# Altium footprint library pico-clasp-5.PcbLib: 1 footprints
Each footprint in its own frame and in the unit in brackets; x right, y up, seen from the top. Pads: shape width x height; smd on the part's side, far side on the other; paste and mask are expansions set on the pad; w line width, h text height; cw(c..) or ccw(c..) is an arc to the next point about the centre after c.
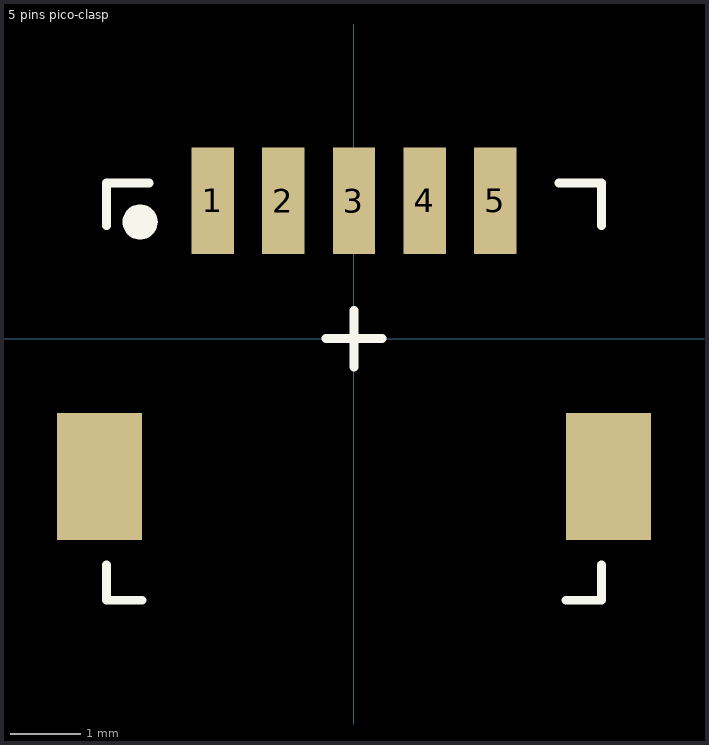
[diagram p0: the footprint, top view; thin cyan lines are the x and y axes]

## 5 pins pico-clasp [mm]
pads (8):
  rect 0.6x1.5 smd: 1(-2,1.95) 2(-1,1.95) 3(0,1.95) 4(1,1.95) 5(2,1.95)
  rect 1.2x1.8 smd: ""(-3.6,-1.95) ""(3.6,-1.95)
  round 0.5 on Top Overlay: ""(-3.025,1.65)
Top Overlay:
  lines w0.125: -3.5,-3.2 -3.5,-3.7 -3,-3.7 ; -3.5,1.6 -3.5,2.2 -2.9,2.2 ; -0.4,0 0.4,0 ; 0,-0.4 0,0.4 ; 2.9,2.2 3.5,2.2 3.5,1.6 ; 3,-3.7 3.5,-3.7 3.5,-3.2
3D body "2023960507.stp": height 3.22, standoff 0.04, extent -3.5,-3.675 3.5,2.225